# Altium footprint library WS2812B.PcbLib: 1 footprints
Each footprint in its own frame and in the unit in brackets; x right, y up, seen from the top. Pads: shape width x height; smd on the part's side, far side on the other; paste and mask are expansions set on the pad; w line width, h text height; cw(c..) or ccw(c..) is an arc to the next point about the centre after c.
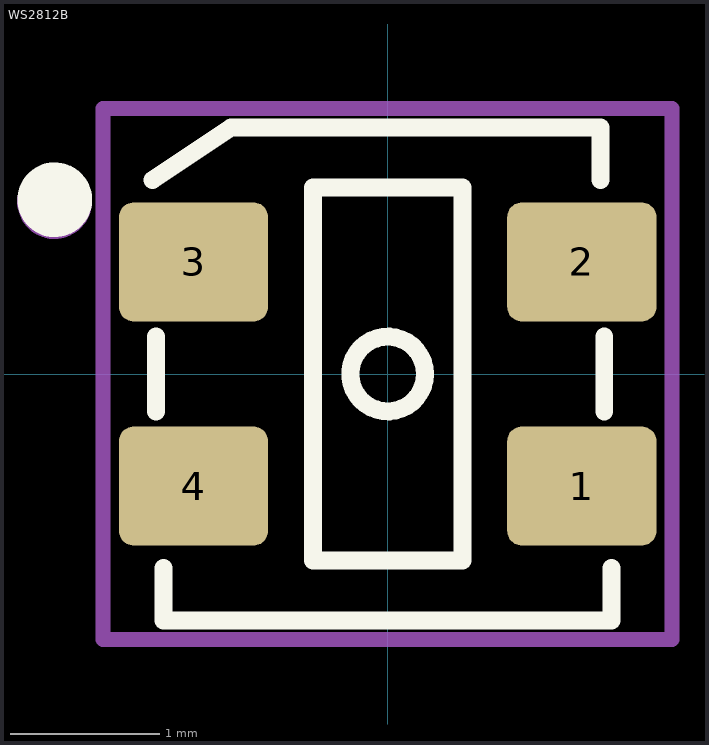
[diagram p0: the footprint, top view; thin cyan lines are the x and y axes]

## WS2812B [mm]
pads (4):
  rrect25% 1x0.8 smd paste+0 mask+0.102: 1(1.3,-0.75) 2(1.3,0.75) 3(-1.3,0.75) 4(-1.3,-0.75)
Top Overlay:
  circle w0.25: c-2.229,1.167 r0.125
  circle w0.12: c0,0 r0.25
  lines w0.12: -1.575,1.3 -1.048,1.651 1.425,1.651 1.425,1.3 ; -1.55,-0.25 -1.55,0.25 ; -1.5,-1.3 -1.5,-1.651 1.5,-1.651 1.5,-1.3 ; 1.45,-0.25 1.45,0.25 ; -0.5,-1.25 0.5,-1.25 0.5,1.25 -0.5,1.25 -0.5,-1.25
Mechanical 1:
  circle w0.25: c-2.231,1.154 r0.125
  lines w0.1: -1.905,-1.778 1.905,-1.778 1.905,1.778 -1.905,1.778 -1.905,-1.778
  text ".Designator" at -0.254,0.188 h1
Mechanical 15:
  text "+" at -0.333,-0.5 h1
3D body "SMD WS2812B Mini.step": height 1.98, standoff 0.03, extent -1.84,-1.74 1.84,1.74